# EAGLE library part EXP1.2-C (library usb-fpga-1)
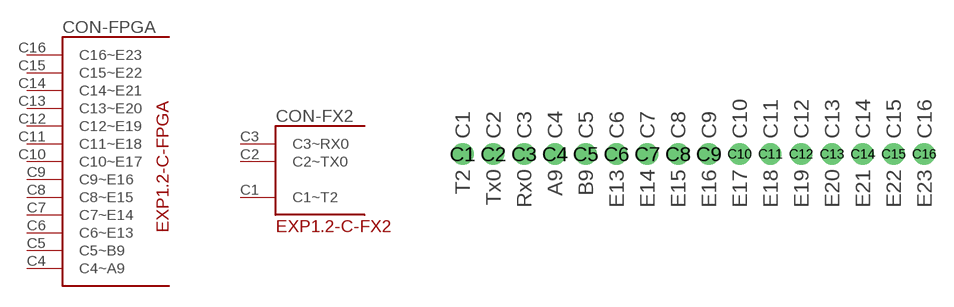
[diagram p8: symbol with the pads of EXP1.2-C; footprint EXP1.2-C]

Designator prefix CON; gates -FPGA=EXP1.2-C-FPGA -FX2=EXP1.2-C-FX2

## EXP1.2-C  [EXP1.2-C]
C1  -FX2:C1~T2
C2  -FX2:C2~TX0
C3  -FX2:C3~RX0
C4  -FPGA:C4~A9
C5  -FPGA:C5~B9
C6  -FPGA:C6~E13
C7  -FPGA:C7~E14
C8  -FPGA:C8~E15
C9  -FPGA:C9~E16
C10  -FPGA:C10~E17
C11  -FPGA:C11~E18
C12  -FPGA:C12~E19
C13  -FPGA:C13~E20
C14  -FPGA:C14~E21
C15  -FPGA:C15~E22
C16  -FPGA:C16~E23

## Footprint EXP1.2-C (pad centres in mm)
drill 1.2 round: C1 0,0; C2 2.54,0; C3 5.08,0; C4 7.62,0; C5 10.16,0; C6 12.7,0; C7 15.24,0; C8 17.78,0; C9 20.32,0; C10 22.86,0; C11 25.4,0; C12 27.94,0; C13 30.48,0; C14 33.02,0; C15 35.56,0; C16 38.1,0